# Altium schematic symbol library Multimeter.SchLib: 47 symbols
Pins are listed as number, name and electrical type; pins without a type are passive.

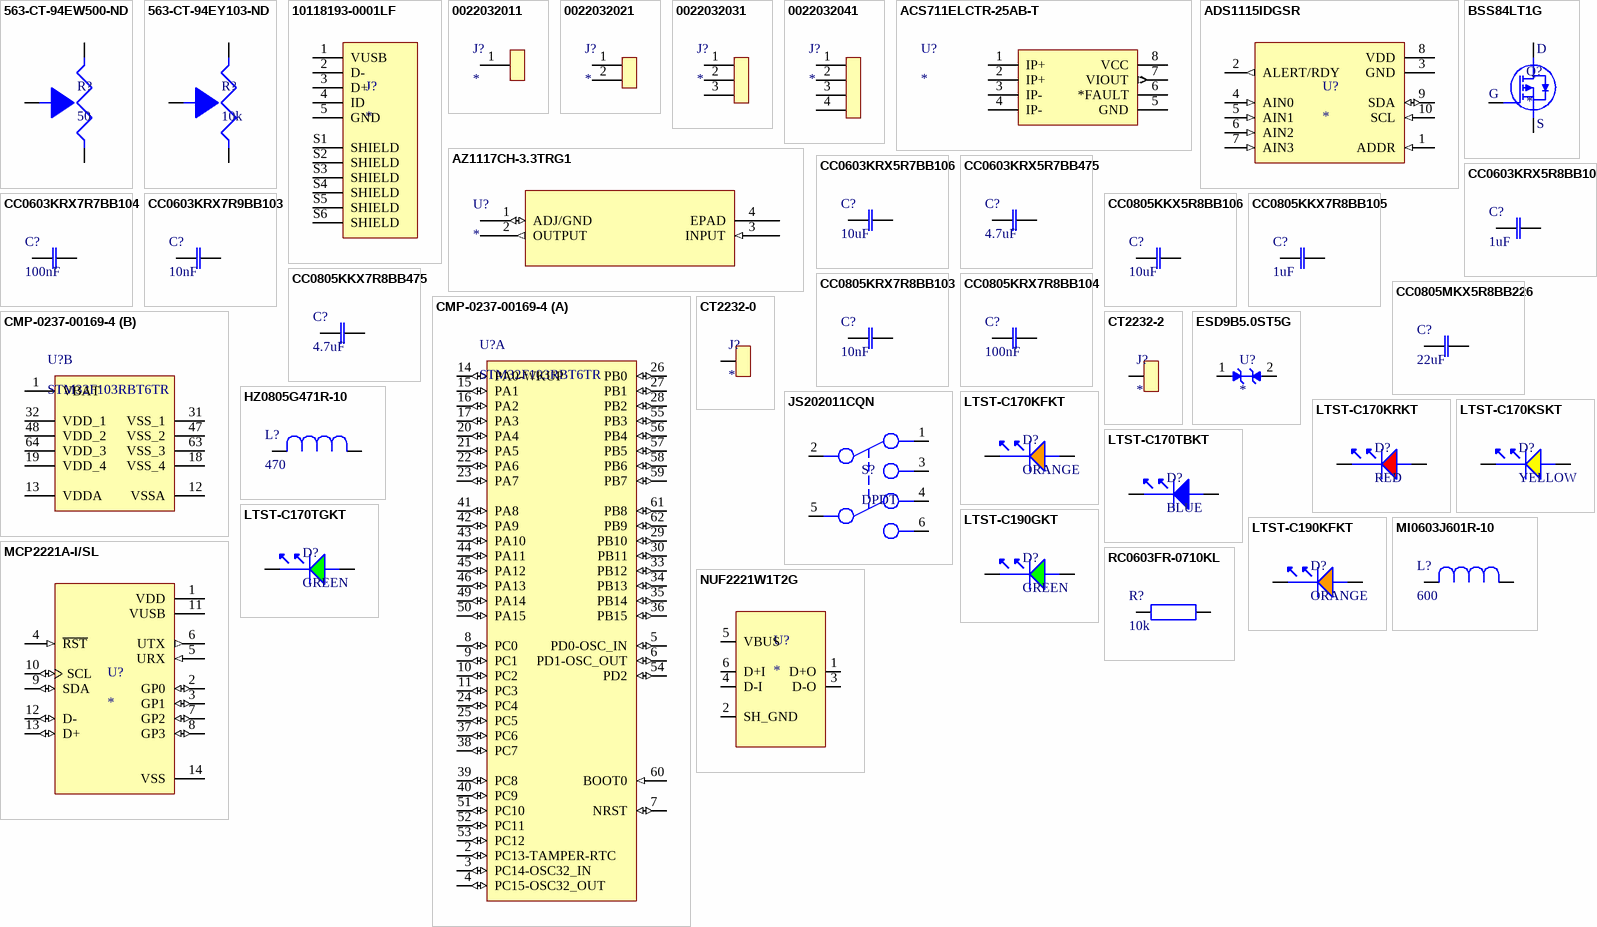
[diagram p0: symbols 563-CT-94EW500-ND to RC0603FR-0710KL]

## 563-CT-94EW500-ND
designator R?, comment 50
50 Ohms 0.5W, 1/2W PC Pins Through Hole Trimmer Potentiometer Cermet 18.0 Turn Top Adjustment; Manufacturer: Nidec Components Corporation; Manufacturer Part Number: CT-94EW500; ComponentLink1Description: Digikey; ComponentLink1URL: https://www.digikey.ca/en/products/detail/nidec-components-corporation/CT-94EW500/738415; Supplier: Digikey; Supplier Part Number: 563-CT-94EW500-ND
footprint 563-CT-94EW500-ND
pins: 1, 2, 3

## 563-CT-94EY103-ND
designator R?, comment 10k
10 kOhms 0.5W, 1/2W PC Pins Through Hole Trimmer Potentiometer Cermet 18.0 Turn Top Adjustment; Manufacturer: Nidec Components Corporation; Manufacturer Part Number: CT-94EY103; ComponentLink1Description: Digikey; ComponentLink1URL: https://www.digikey.ca/en/products/detail/nidec-components-corporation/CT-94EW500/738415; Supplier: Digikey; Supplier Part Number: 563-CT-94EY103-ND
footprint 563-CT-94EW500-ND
pins: 1, 2, 3

## 10118193-0001LF
designator J?
USB - micro B USB 2.0 Receptacle Connector 5 Position Surface Mount, Right Angle; Through Hole; Manufacturer: Amphenol ICC (FCI); MF: Amphenol ICC; MP: 10118193-0001LF; SnapEDA_Link: https://www.snapeda.com/parts/10118193-0001LF/Amphenol+FCI/view-part/?ref=snap; Package: None; Check_prices: https://www.snapeda.com/parts/10118193-0001LF/Amphenol+FCI/view-part/?ref=eda; Supplier: Digikey; Supplier Part Number: 609-4616-2-ND; Manufacturer Part Number: 10118193-0001LF
footprint AMPHENOL_10118193-0001LF
pins: 1 VUSB, 2 D-, 3 D+, 4 ID, 5 GND, S1 SHIELD, S2 SHIELD, S3 SHIELD, S4 SHIELD, S5 SHIELD, S6 SHIELD

## 0022032011
designator J?
Connector Header Through Hole 1 position 0.100" (2.54mm); Manufacturer: Molex; Manufacturer Part Number: 0022032031; Supplier: Digikey; Supplier Part Number: 900-0022032031-ND
footprint CONN3X1_22032011_MOL
pins: 1

## 0022032021
designator J?
Connector Header Through Hole 2 position 0.100" (2.54mm); Manufacturer: Molex; Manufacturer Part Number: 0022032021; Supplier: Digikey; Supplier Part Number: WM4000-ND
footprint CONN3X1_22032021_MOL
pins: 1, 2

## 0022032031
designator J?
Connector Header Through Hole 3 position 0.100" (2.54mm); Manufacturer: Molex; Manufacturer Part Number: 0022032031; Supplier: Digikey; Supplier Part Number: 900-0022032031-ND
footprint CONN3X1_22032031_MOL
pins: 1, 2, 3

## 0022032041
designator J?
Connector Header Through Hole 4 position 0.100" (2.54mm); Manufacturer: Molex; Manufacturer Part Number: 0022032041; Supplier: Digikey; Supplier Part Number: WM4002-ND
footprint CONN3X1_22032041_MOL
pins: 1, 2, 3, 4

## ACS711ELCTR-25AB-T
designator U?
Current Sensor 25A 1 Channel Hall Effect, Open Loop Bidirectional 8-SOIC (0.154", 3.90mm Width); Manufacturer: *Allegro MicroSystems; Manufacturer Part Number: ACS711ELCTR-25AB-T; Supplier: Digikey; Supplier Part Numebr: 620-1371-2-ND
footprint SOICN-8_ALM
pins: 1 IP+, 2 IP+, 3 IP-, 4 IP-, 5 GND (power), 6 *FAULT, 7 VIOUT (out), 8 VCC (power)

## ADS1115IDGSR
designator U?
16 Bit Analog to Digital Converter 2, 4 Input 1 Sigma-Delta 10-VSSOP; Manufacturer: Texas Instruments; Manufacturer Part Number: ADS1115IDGSR; Supplier: Digikey; Supplier Part Number: 296-38849-2-ND
footprint SOP50P490X110-10N
pins: 1 ADDR (in), 2 ALERT/RDY (out), 3 GND (power), 4 AIN0 (in), 5 AIN1 (in), 6 AIN2 (in), 7 AIN3 (in), 8 VDD (power), 9 SDA (io), 10 SCL (in)

## AZ1117CH-3.3TRG1
designator U?
Linear Voltage Regulator IC Positive Fixed 1 Output 1A SOT-223-3; Manufacturer: Diodes Incorporated; Manufacturer Part Number: AZ1117CH-3.3TRG1; Supplier: Digikey; Supplier Part Number: AZ1117CH-3.3TRG1DITR-ND
footprint SOT-223_DIO
pins: 1 ADJ/GND (io), 2 OUTPUT (out), 3 INPUT (in), 4 EPAD

## BSS84LT1G
designator Q?
P-Channel 50 V 130mA (Ta) 225mW (Ta) Surface Mount SOT-23-3 (TO-236); Manufacturer: onsemi; Manufacturer Part Number: BSS84LT1G; ComponentLink1Description: Digikey; ComponentLink1URL: https://www.digikey.ca/en/products/detail/toshiba-semiconductor-and-storage/T2N7002AK-LM/5298028; Supplier: Digikey; Supplier Part Number: BSS84LT1GOSTR-ND
footprint BSS84LT1G
pins: 1, 2, 3
text: D; G; S

## CC0603KRX5R7BB106
designator C?, comment 10uF
10 µF ±10% 16V Ceramic Capacitor X5R 0603 (1608 Metric); Manufacturer: YAGEO; Manufacturer Part Number: CC0603KRX5R7BB106; Supplier: Digikey; Supplier Part Number: 311-3486-2-ND
footprint CC0603N_YAG
pins: 1, 2

## CC0603KRX5R7BB475
designator C?, comment 4.7uF
4.7 µF ±10% 16V Ceramic Capacitor X5R 0603 (1608 Metric); Manufacturer: YAGEO; Manufacturer Part Number: CC0603KRX5R7BB475; Supplier: Digikey; Supplier Part Number: 311-1785-2-ND
footprint CC0603N_YAG
pins: 1, 2

## CC0603KRX5R8BB105
designator C?, comment 1uF
1 µF ±10% 25V Ceramic Capacitor X5R 0603 (1608 Metric); Manufacturer: YAGEO; Manufacturer Part Number: CC0603KRX5R8BB105; Supplier: Digikey; Supplier Part Number: 311-1445-2-ND
footprint CC0603N_YAG
pins: 1, 2

## CC0603KRX7R7BB104
designator C?, comment 100nF
0.1 µF ±10% 16V Ceramic Capacitor X7R 0603 (1608 Metric); Manufacturer: YAGEO; Manufacturer Part Number: CC0603KRX7R7BB104; Supplier: Digikey; Supplier Part Number: 240-2371-2-ND
footprint CC0603N_YAG
pins: 1, 2

## CC0603KRX7R9BB103
designator C?, comment 10nF
10000 pF ±10% 50V Ceramic Capacitor X7R 0603 (1608 Metric); Manufacturer: YAGEO; Manufacturer Part Number: CC0603KRX7R9BB103; Supplier: Digikey; Supplier Part Number: 240-2371-2-ND
footprint CC0603N_YAG
pins: 1, 2

## CC0805KKX5R8BB106
designator C?, comment 10uF
10 µF ±10% 25V Ceramic Capacitor X5R 0805 (2012 Metric); Manufacturer: YAGEO; Manufacturer Part Number: CC0805KKX5R8BB106; Supplier: Digikey; Supplier Part Number: 311-1869-2-ND
footprint CAP_CC0805_YAG
pins: 1, 2

## CC0805KKX7R8BB105
designator C?, comment 1uF
1 µF ±10% 25V Ceramic Capacitor X7R 0805 (2012 Metric); Manufacturer: YAGEO; Manufacturer Part Number: CC0805KKX7R8BB105; Supplier: Digikey; Supplier Part Number: 311-1456-2-ND
footprint CAP_CC0805_YAG
pins: 1, 2

## CC0805KKX7R8BB475
designator C?, comment 4.7uF
4.7 µF ±10% 25V Ceramic Capacitor X7R 0805 (2012 Metric); Manufacturer: YAGEO; Manufacturer Part Number: CC0805KKX7R8BB475; Supplier: Digikey; Supplier Part Number: 311-1885-2-ND
footprint CAP_CC0805_YAG
pins: 1, 2

## CC0805KRX7R8BB103
designator C?, comment 10nF
10000 pF ±10% 25V Ceramic Capacitor X7R 0805 (2012 Metric); Manufacturer: YAGEO; Manufacturer Part Number: CC0805KRX7R8BB103; Supplier: Digikey; Supplier Part Number: 311-3579-2-ND
footprint CAP_CC0805_YAG
pins: 1, 2

## CC0805KRX7R8BB104
designator C?, comment 100nF
0.1 µF ±10% 25V Ceramic Capacitor X7R 0805 (2012 Metric); Manufacturer: YAGEO; Manufacturer Part Number: CC0805KRX7R8BB104; Supplier: Digikey; Supplier Part Number: 311-1141-2-ND
footprint CAP_CC0805_YAG
pins: 1, 2

## CC0805MKX5R8BB226
designator C?, comment 22uF
22 µF ±20% 25V Ceramic Capacitor X5R 0805 (2012 Metric); Manufacturer: YAGEO; Manufacturer Part Number: CC0805MKX5R8BB226; Supplier: Digikey; Supplier Part Number: 311-1903-2-ND
footprint CAP_CC0805_YAG
pins: 1, 2

## CMP-0237-00169-4
designator U?, comment STM32F103RBT6TR
ARM Cortex-M3 32-bit MCU, 128 KB Flash, 20 KB Internal RAM, 51 I/Os, 64-pin LQFP, -40 to 85 degC, Tape and Reel; Operating Frequency(F) (Processor speed) (MHz): 72; Internal RAM Size (kB): 20; I/Os (High Current): 51; FLASH Size (Prog) (kB): 128; Supply Voltage(Vcc) min (V): 2; A/D Converter: 2x12-bit (16 Channel); ComponentLink3URL: http://www.st.com/st-web-ui/static/active/en/resource/technical/document/datasheet/DM00037051.pdf; ComponentLink2Description: Datasheet; PackageDescription: 64-Pin Low Profile Quad Flat Package, 10 x 10 mm Body, 0.5 mm Pitch; ComponentLink3Description: Package Specification; Mounting Technology: Surface Mount; ComponentLink1Description: Manufacturer URL; DatasheetVersion: Rev. 16; PackageReference: LQFP64; PartNumber: STM32F103RBT6TR; Core: ARM Cortex-M3; ComponentLink2URL: http://www.st.com/st-web-ui/static/active/en/resource/technical/document/datasheet/CD00161566.pdf; ComponentLink1URL: http://www.st.com/web/en/home.html; PackageVersion: Rev. 4, 06/2013; Packing: Tape and Reel
footprint STM-LQFP64_V (Thin QFP, 64-Leads, Body 10x10mm, Pitch 0.5mm, ST Recommended)
part A pins: 2 PC13-TAMPER-RTC (io) "PC13-TAMPER-RTC/PC13/TAMPER-RTC", 3 PC14-OSC32_IN (io) "PC14-OSC32_IN/PC14/OSC32_IN", 4 PC15-OSC32_OUT (io) "PC15-OSC32_OUT/PC15/OSC32_OUT", 5 PD0-OSC_IN (io) "PD0/OSC_IN", 6 PD1-OSC_OUT (io) "PD1/OSC_OUT", 7 NRST (io), 8 PC0 (io) "PC0/ADC12_IN10", 9 PC1 (io) "PC1/ADC12_IN11", 10 PC2 (io) "PC2/ADC12_IN12", 11 PC3 (io) "PC3/ADC12_IN13", 14 PA0-WKUP (io) "PA0-WKUP/PA0/WKUP/USART2_CTS/ADC12_IN0/TIM2_CH1_ETR", 15 PA1 (io) "PA1/USART2_RTS/ADC12_IN1/TIM2_CH2", 16 PA2 (io) "PA2/USART2_TX/ADC12_IN2/TIM2_CH3", 17 PA3 (io) "PA3/USART2_RX/ADC12_IN3/TIM2_CH4", 20 PA4 (io) "PA4/SPI1_NSS/USART2_CK/ADC12_IN4", 21 PA5 (io) "PA5/SPI1_SCK/ADC12_IN5", 22 PA6 (io) "PA6/SPI1_MISO/ADC12_IN6/TIM3_CH1/TIM1_BKIN", 23 PA7 (io) "PA7/SPI1_MOSI/ADC12_IN7/TIM3_CH2/TIM1_CH1N", 24 PC4 (io) "PC4/ADC12_IN14", 25 PC5 (io) "PC5/ADC12_IN15", 26 PB0 (io) "PB0/ADC12_IN8/TIM3_CH3/TIM1_CH2N", 27 PB1 (io) "PB1/ADC12_IN9/TIM3_CH4/TIM1_CH3N", 28 PB2 (io) "PB2/BOOT1", 29 PB10 (io) "PB10/I2C2_SCL/USART3_TX/TIM2_CH3", 30 PB11 (io) "PB11/I2C2_SDA/USART3_RX/TIM2_CH4", 33 PB12 (io) "PB12/SPI2_NSS/I2C2_SMBAl/USART3_CK/TIM1_BKIN", 34 PB13 (io) "PB13/SPI2_SCK/USART3_CTS/TIM1_CH1N", 35 PB14 (io) "PB14/SPI2_MISO/USART3_RTS/TIM1_CH2N", 36 PB15 (io) "PB15/SPI2_MOSI/TIM1_CH3N", 37 PC6 (io) "PC6/TIM3_CH1", 38 PC7 (io) "PC7/TIM3_CH2", 39 PC8 (io) "PC8/TIM3_CH3", 40 PC9 (io) "PC9/TIM3_CH4", 41 PA8 (io) "PA8/USART1_CK/TIM1_CH1/MCO", 42 PA9 (io) "PA9/USART1_TX/TIM1_CH2", 43 PA10 (io) "PA10/USART1_RX/TIM1_CH3", 44 PA11 (io) "PA11/USART1_CTS/CANRX/USBDM/TIM1_CH4", 45 PA12 (io) "PA12/USART1_RTS/CANTX/USBDP/TIM1_ETR", 46 PA13 (io) "PA13/JTMS/SWDIO", 49 PA14 (io) "PA14/JTCK/SWCLK", 50 PA15 (io) "PA15/JTDI/TIM2_CH1_ETR/SPI1_NSS", 51 PC10 (io) "PC10/USART3_TX", 52 PC11 (io) "PC11/USART3_RX", 53 PC12 (io) "PC12/USART3_CK", 54 PD2 (io) "PD2/TIM3_ETR", 55 PB3 (io) "PB3/JTDO/TIM2_CH2/TRACESWO/SPI1_SCK", 56 PB4 (io) "PB4/NJTRST/TIM3_CH1/SPI1_MISO", 57 PB5 (io) "PB5/I2C1_SMBAI/TIM3_CH2/SPI1_MOSI", 58 PB6 (io) "PB6/I2C1_SCL/TIM4_CH1/USART1_TX", 59 PB7 (io) "PB7/I2C1_SDA/TIM4_CH2/USART1_RX", 60 BOOT0 (in), 61 PB8 (io) "PB8/TIM4_CH3/I2C1_SCL/CANRX", 62 PB9 (io) "PB9/TIM4_CH4/I2C1_SDA/CANTX"
part B pins: 1 VBAT (power), 12 VSSA (power), 13 VDDA (power), 18 VSS_4 (power), 19 VDD_4 (power), 31 VSS_1 (power), 32 VDD_1 (power), 47 VSS_2 (power), 48 VDD_2 (power), 63 VSS_3 (power), 64 VDD_3 (power)

## CT2232-0
designator J?
(Banana) CONN BIND POST KNURLED BLACK; Manufacturer: Cal Test Electronics; Parameter 4: CT2232-0; Supplier: Digikey; Supplier Part Number: BKCT2232-0-ND
footprint CT2232-0
pins: 1

## CT2232-2
designator J?
(Banana) CONN BIND POST KNURLED RED; Manufacturer: Cal Test Electronics; Parameter 4: CT2232-0; Supplier: Digikey; Supplier Part Number: BKCT2232-2-ND
footprint CT2232-2
pins: 1

## ESD9B5.0ST5G
designator U?
Clamp Ipp Tvs Diode Surface Mount SOD-923; Manufacturer: onsemi; Manufacturer Part Number: ESD9B5.0ST5G; Supplier: Digikey; Supplier Part Number: ESD9B5.0ST5GOSTR-ND
footprint SODFL1006X40N
pins: 1 A, 2 A1

## HZ0805G471R-10
designator L?, comment 470
470 Ohms @ 100 MHz 1 Power, Signal Line Ferrite Bead 0805 (2012 Metric) 1A 200mOhm; Manufacturer: Laird-Signal Integrity Products; Manufacturer Part Number: HZ0805G471R-10; Supplier: Digikey; Supplier Part Number: 240-2400-2-ND
footprint IND_HZ0805G471R-10
pins: 1, 2

## JS202011CQN
designator S?, comment DPDT
SWITCH SLIDE DPDT 300MA 6V; Manufacturer: C&K; Manufacturer Part Number: JS202011CQN; ComponentLink1Description: Digikey; ComponentLink1URL: https://www.digikey.ca/en/products/detail/c-k/JS202011CQN/1640097; Supplier: Digikey; Supplier Part Number: 401-2001-ND
footprint JS202011CQN
pins: 1, 2, 3, 4, 5, 6

## LTST-C170KFKT
designator D?, comment ORANGE
Orange 605nm LED Indication - Discrete 2V 0805 (2012 Metric); Manufacturer: Lite-On Inc.; Manufacturer Part Number: LTST-C170KFKT; ComponentLink1Description: Digikey; ComponentLink1URL: https://www.digikey.ca/en/products/detail/liteon/LTST-C190KFKT/386813; Supplier: Digikey; Supplier Part Number: 160-1413-2-ND
footprint LTST-C170TGKT
pins: 1, 2

## LTST-C170KRKT
designator D?, comment RED
Red 631nm LED Indication - Discrete 2V 0805 (2012 Metric); Manufacturer: Lite-On Inc.; Manufacturer Part Number: LTST-C170KRKT; ComponentLink1Description: Digikey; ComponentLink1URL: https://www.digikey.ca/en/products/detail/liteon/LTST-C190KFKT/386813; Supplier: Digikey; Supplier Part Number: 160-1415-2-ND
footprint LTST-C170TGKT
pins: 1, 2

## LTST-C170KSKT
designator D?, comment YELLOW
Yellow 591nm LED Indication - Discrete 2.1V 0805 (2012 Metric); Manufacturer: Lite-On Inc.; Manufacturer Part Number: LTST-C170KSKT; ComponentLink1Description: Digikey; ComponentLink1URL: https://www.digikey.ca/en/products/detail/liteon/LTST-C190KFKT/386813; Supplier: Digikey; Supplier Part Number: 160-1416-2-ND
footprint LTST-C170TGKT
pins: 1, 2

## LTST-C170TBKT
designator D?, comment BLUE
Blue 470nm LED Indication - Discrete 3.3V 0805 (2012 Metric); Manufacturer: Lite-On Inc.; Manufacturer Part Number: LTST-C170TBKT; ComponentLink1Description: Digikey; ComponentLink1URL: https://www.digikey.ca/en/products/detail/liteon/LTST-C190KFKT/386813; Supplier: Digikey; Supplier Part Number: 160-1579-2-ND
footprint LTST-C170TGKT
pins: 1, 2

## LTST-C170TGKT
designator D?, comment GREEN
Green 525nm LED Indication - Discrete 3.2V 0805 (2012 Metric); Manufacturer: Lite-On Inc.; Manufacturer Part Number: LTST-C170TGKT; ComponentLink1Description: Digikey; ComponentLink1URL: https://www.digikey.ca/en/products/detail/liteon/LTST-C190KFKT/386813; Supplier: Digikey; Supplier Part Number: 160-1887-2-ND
footprint LTST-C170TGKT
pins: 1, 2

## LTST-C190GKT
designator D?, comment GREEN
Green 569nm LED Indication - Discrete 2.1V 0603 (1608 Metric); Manufacturer: Lite-On Inc.; Manufacturer Part Number: LTST-C190GKT; ComponentLink1Description: Digikey; ComponentLink1URL: https://www.digikey.ca/en/products/detail/liteon/LTST-C190GKT/269230; Supplier: Digikey; Supplier Part Number: 160-1183-1-ND
footprint LTST-C190GKT
pins: 1, 2

## LTST-C190KFKT
designator D?, comment ORANGE
Orange 605nm LED Indication - Discrete 2V 0603 (1608 Metric); Manufacturer: Lite-On Inc.; Manufacturer Part Number: LTST-C190KFKT; ComponentLink1Description: Digikey; ComponentLink1URL: https://www.digikey.ca/en/products/detail/liteon/LTST-C190KFKT/386813; Supplier: Digikey; Supplier Part Number: 160-1434-1-ND
footprint LTST-C190KFKT
pins: 1, 2

## MCP2221A-I/SL
designator U?
USB Bridge, USB to I2C/UART USB 2.0 I2C, UART Interface 14-SOIC; Manufacturer: Microchip Technology; Manufacturer Part Number: MCP2221A-I/SL; Supplier: Digikey; Supplier Part Number: MCP2221A-I/SL-ND
footprint SOIC127P600X175-14N
pins: 1 VDD (power), 2 GP0 (io), 3 GP1 (io), 4 ~{RST} (in), 5 URX (in), 6 UTX (out), 7 GP2 (io), 8 GP3 (io), 9 SDA (io), 10 SCL (io), 11 VUSB (power), 12 D- (io), 13 D+ (io), 14 VSS (power)

## MI0603J601R-10
designator L?, comment 600
600 Ohms @ 100 MHz 1 Power, Signal Line Ferrite Bead 0603 (1608 Metric) 1A 200mOhm; Manufacturer: Laird-Signal Integrity Products; Manufacturer Part Number: MI0603J601R-10; Supplier: Digikey; Supplier Part Number: 240-2371-2-ND
footprint IND_HZ0805G471R-10
pins: 1, 2

## NUF2221W1T2G
designator U?
RC (Pi) EMI Filter 2nd Order Low Pass 3 Channel R = 22Ohms, C = 42pF (Total) 6-TSSOP, SC-88, SOT-363; Manufacturer: onsemi; Manufacturer Part Number: NUF2221W1T2G; Supplier: Digikey; Supplier Part Number: NUF2221W1T2GOSTR-ND
footprint SOT-363
pins: 1 D+O (io), 2 SH_GND (power), 3 D-O (io), 4 D-I (io), 5 VBUS (power), 6 D+I (io)

## RC0603FR-0710KL
designator R?, comment 10k
10 kOhms ±1% 0.1W, 1/10W Chip Resistor 0603 (1608 Metric) Moisture Resistant Thick Film; Manufacturer: YAGEO; Manufacturer Part Number: RC0603FR-0710KL; Supplier: Digikey; Supplier Part Number: 311-10.0KHRTR-ND
footprint RC0603FR-07100RL
pins: 1, 2

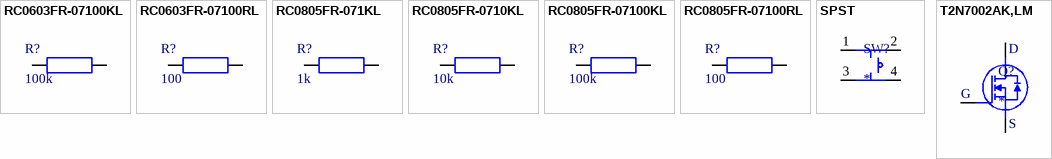
[diagram p1: symbols RC0603FR-07100KL to T2N7002AK,LM]

## RC0603FR-07100KL
designator R?, comment 100k
100 kOhms ±1% 0.1W, 1/10W Chip Resistor 0603 (1608 Metric) Moisture Resistant Thick Film; Manufacturer: YAGEO; Manufacturer Part Number: RC0603FR-07100KL; Supplier: Digikey; Supplier Part Number: 311-100KHRTR-ND
footprint RC0603FR-07100RL
pins: 1, 2

## RC0603FR-07100RL
designator R?, comment 100
100 Ohms ±1% 0.1W, 1/10W Chip Resistor 0603 (1608 Metric) Moisture Resistant Thick Film; Manufacturer: YAGEO; Manufacturer Part Number: RC0603FR-07100RL; Supplier: Digikey; Supplier Part Number: 311-100HRTR-ND
footprint RC0603FR-07100RL
pins: 1, 2

## RC0805FR-071KL
designator R?, comment 1k
1 kOhms ±1% 0.125W, 1/8W Chip Resistor 0805 (2012 Metric) Moisture Resistant Thick Film; Manufacturer: YAGEO; Manufacturer Part Number: RC0805FR-071KL; Supplier: Digikey; Supplier Part Number: 311-1.00KCRTR-ND
footprint RESC2012X60N
pins: 1, 2

## RC0805FR-0710KL
designator R?, comment 10k
10 kOhms ±1% 0.125W, 1/8W Chip Resistor 0805 (2012 Metric) Moisture Resistant Thick Film; Manufacturer: YAGEO; Manufacturer Part Number: RC0805FR-0710KL; Supplier: Digikey; Supplier Part Number: 311-10.0KCRTR-ND
footprint RESC2012X60N
pins: 1, 2

## RC0805FR-07100KL
designator R?, comment 100k
100 kOhms ±1% 0.125W, 1/8W Chip Resistor 0805 (2012 Metric) Moisture Resistant Thick Film; Manufacturer: YAGEO; Manufacturer Part Number: RC0805FR-07100KL; Supplier: Digikey; Supplier Part Number: 311-100KCRTR-ND
footprint RESC2012X60N
pins: 1, 2

## RC0805FR-07100RL
designator R?, comment 100
100 Ohms ±1% 0.125W, 1/8W Chip Resistor 0805 (2012 Metric) Moisture Resistant Thick Film; Manufacturer: YAGEO; Manufacturer Part Number: RC0805FR-07100RL; Supplier: Digikey; Supplier Part Number: 311-100CRTR-ND
footprint RESC2012X60N
pins: 1, 2

## SPST
designator SW?
Tactile Switch SPST-NO Top Actuated Surface Mount; Manufacturer: Alps Alpine; Manufacturer Part Numbe: SKQGADE010; Supplier: Digikey; Supplier Part Numbr: 4809-SKQGADE010TR-ND
footprint SW4-SMD-5.2X5.2X1.5MM
pins: 1, 2, 3, 4

## T2N7002AK,LM
designator Q?
N-Channel 60 V 200mA (Ta) 320mW (Ta) Surface Mount SOT-23-3; Manufacturer: Toshiba Semiconductor and Storage; Manufacturer Part Number: T2N7002AK,LM; ComponentLink1Description: Digikey; ComponentLink1URL: https://www.digikey.ca/en/products/detail/toshiba-semiconductor-and-storage/T2N7002AK-LM/5298028; Supplier: Digikey; Supplier Part Number: T2N7002AKLMCT-ND
footprint T2N7002AK,LM
pins: 1, 2, 3
text: D; G; S